# Altium footprint library Triode^MOS^Transistor.PcbLib: 7 footprints
Each footprint in its own frame and in the unit in brackets; x right, y up, seen from the top. Pads: shape width x height; smd on the part's side, far side on the other; paste and mask are expansions set on the pad; w line width, h text height; cw(c..) or ccw(c..) is an arc to the next point about the centre after c.
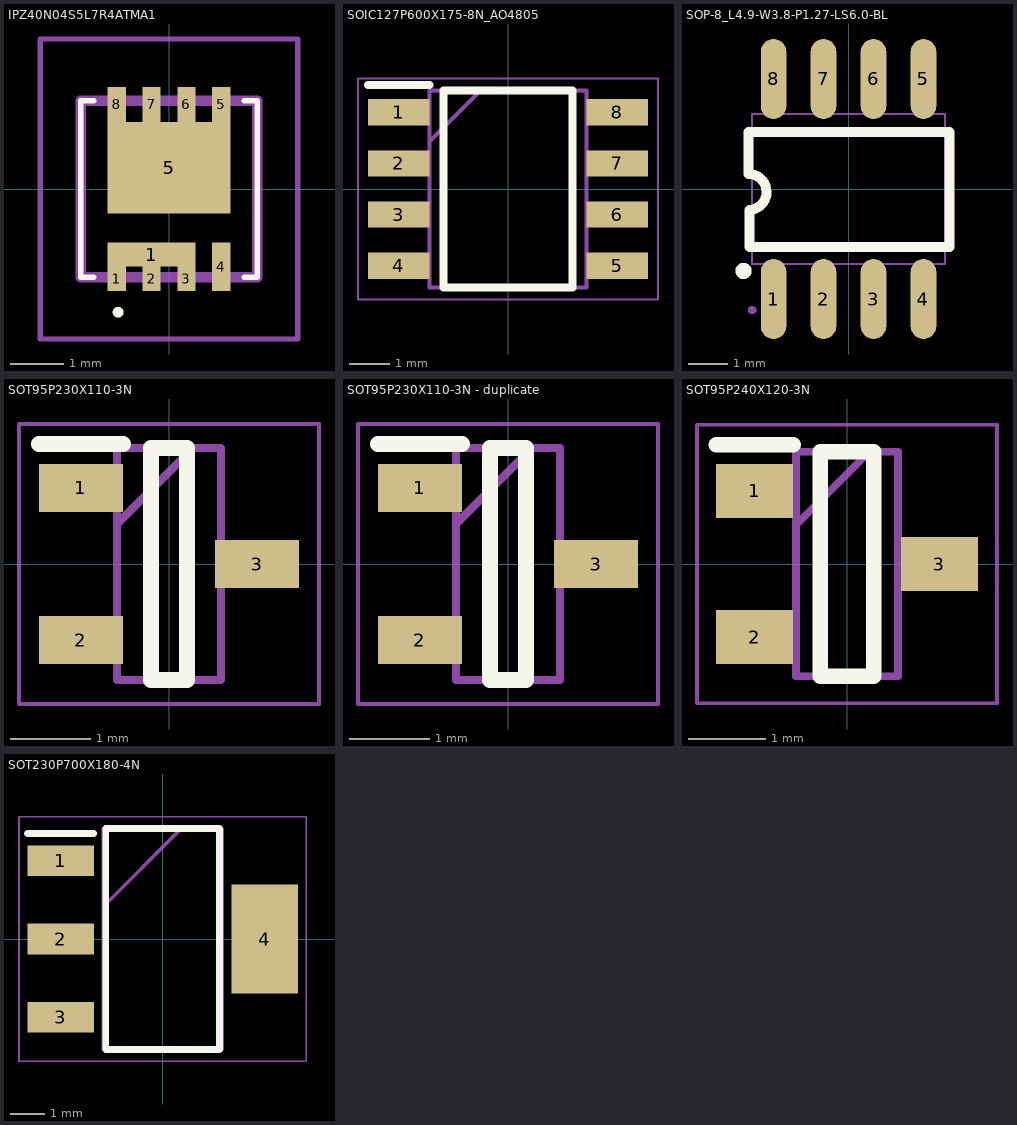
[diagram p0: the footprints below, top view; thin cyan lines are the x and y axes]

## IPZ40N04S5L7R4ATMA1 [mm]
pads (10):
  rect 0.34x0.45 smd: 1(-0.975,-1.675) 2(-0.325,-1.675) 3(0.325,-1.675)
  rect 1.64x0.45 smd: 1(-0.325,-1.225)
  rect 0.34x0.9 smd: 4(0.975,-1.45)
  rect 2.29x1.71 smd: 5(0,0.4)
  rect 0.34x0.65 smd: 5(0.975,1.58) 6(0.325,1.58) 7(-0.325,1.58) 8(-0.975,1.58)
Top Overlay:
  lines w0.1: -1.4,-1.65 -1.65,-1.65 -1.65,1.65 -1.4,1.65 ; 1.4,-1.65 1.65,-1.65 1.65,1.65 1.4,1.65 ; -1,-2.3 cw(c-0.95,-2.3) -0.9,-2.3 cw(c-0.95,-2.3) -1,-2.3
Mechanical 13:
  lines w0.2: -1.65,-1.65 -1.65,1.65 1.65,1.65 1.65,-1.65 -1.65,-1.65
Mechanical 15:
  lines w0.1: -2.4,-2.8 -2.4,2.8 2.4,2.8 2.4,-2.8 -2.4,-2.8

## SOIC127P600X175-8N_AO4805 [mm]
pads (8):
  rect 1.525x0.65 smd: 1(-2.712,1.905) 2(-2.712,0.635) 3(-2.712,-0.635) 4(-2.712,-1.905) 5(2.712,-1.905) 6(2.712,-0.635) 7(2.712,0.635) 8(2.712,1.905)
Top Overlay:
  lines w0.2: -3.475,2.58 -1.95,2.58 ; -1.6,-2.45 1.6,-2.45 1.6,2.45 -1.6,2.45 -1.6,-2.45
Mechanical 13:
  lines w0.1: -1.95,1.18 -0.68,2.45 ; -1.95,-2.45 1.95,-2.45 1.95,2.45 -1.95,2.45 -1.95,-2.45
Mechanical 15:
  lines w0.05: -3.725,-2.75 3.725,-2.75 3.725,2.75 -3.725,2.75 -3.725,-2.75
3D body "AO4805.stp": height 1.75, standoff 0, extent -3,-2.45 3,2.45

## SOP-8_L4.9-W3.8-P1.27-LS6.0-BL [mm]
pads (8):
  oval 0.65x2.032 smd: 1(-1.905,-2.796) 2(-0.635,-2.796) 3(0.635,-2.796) 4(1.905,-2.796) 5(1.905,2.796) 6(0.635,2.796) 7(-0.635,2.796) 8(-1.905,2.796)
Top Overlay:
  circle w0.254: c-2.667,-2.083 r0.08
  lines w0.254: -2.54,0.382 cw(c-2.54,-0.076) -2.515,-0.533 -2.515,-1.473 -2.489,-1.473 2.565,-1.473 2.565,1.448 -2.54,1.448 -2.54,0.382
Mechanical 6:
  circle w0.254: c-1.905,-3.353 r0.127
Mechanical 15:
  region: -2.35,-3.076 -2.35,-3.034 -2.409,-2.976 -2.492,-2.976 -2.55,-3.034 -2.55,-3.076 -2.55,-3.117 -2.492,-3.176 -2.409,-3.176 -2.35,-3.117 -2.35,-3.076
  region: -2.095,1.89 -2.095,2.375 -1.715,2.375 -1.715,1.89
  region: -2.095,2.365 -2.095,3 -1.715,3 -1.715,2.365
  region: -0.825,1.89 -0.825,2.375 -0.445,2.375 -0.445,1.89
  region: -0.825,2.365 -0.825,3 -0.445,3 -0.445,2.365
  region: 0.445,1.89 0.445,2.375 0.825,2.375 0.825,1.89
  region: 0.445,2.365 0.445,3 0.825,3 0.825,2.365
  region: 1.715,1.89 1.715,2.375 2.095,2.375 2.095,1.89
  region: 1.715,2.365 1.715,3 2.095,3 2.095,2.365
  region: 1.715,-2.375 1.715,-1.89 2.095,-1.89 2.095,-2.375
  region: 1.715,-3 1.715,-2.365 2.095,-2.365 2.095,-3
  region: 0.445,-2.375 0.445,-1.89 0.825,-1.89 0.825,-2.375
  region: 0.445,-3 0.445,-2.365 0.825,-2.365 0.825,-3
  region: -0.825,-2.375 -0.825,-1.89 -0.445,-1.89 -0.445,-2.375
  region: -0.825,-3 -0.825,-2.365 -0.445,-2.365 -0.445,-3
  region: -2.095,-2.375 -2.095,-1.89 -1.715,-1.89 -1.715,-2.375
  region: -2.095,-3 -2.095,-2.365 -1.715,-2.365 -1.715,-3
  lines w0.051: -2.45,-1.9 -2.45,1.9 2.45,1.9 2.45,-1.9 -2.45,-1.9

## SOT95P230X110-3N [mm]
pads (3):
  rect 1.05x0.6 smd: 1(-1.1,0.95) 2(-1.1,-0.95) 3(1.1,0)
Top Overlay:
  lines w0.2: -1.625,1.5 -0.575,1.5 ; -0.225,-1.45 0.225,-1.45 0.225,1.45 -0.225,1.45 -0.225,-1.45
Mechanical 13:
  lines w0.1: -0.65,0.5 0.3,1.45 ; -0.65,-1.45 0.65,-1.45 0.65,1.45 -0.65,1.45 -0.65,-1.45
Mechanical 15:
  lines w0.05: -1.875,-1.75 1.875,-1.75 1.875,1.75 -1.875,1.75 -1.875,-1.75
3D body "2N7002P,235.stp": height 1.1, standoff 0, extent -1.15,-1.45 1.15,1.45

## SOT95P230X110-3N - duplicate [mm]
pads (3):
  rect 1.05x0.6 smd: 1(-1.1,0.95) 2(-1.1,-0.95) 3(1.1,0)
Top Overlay:
  lines w0.2: -1.625,1.5 -0.575,1.5 ; -0.225,-1.45 0.225,-1.45 0.225,1.45 -0.225,1.45 -0.225,-1.45
Mechanical 13:
  lines w0.1: -0.65,0.5 0.3,1.45 ; -0.65,-1.45 0.65,-1.45 0.65,1.45 -0.65,1.45 -0.65,-1.45
Mechanical 15:
  lines w0.05: -1.875,-1.75 1.875,-1.75 1.875,1.75 -1.875,1.75 -1.875,-1.75
3D body "BSS138P,215.stp": height 0.95, standoff 0, extent -1.201,-1.448 1.199,1.452

## SOT95P240X120-3N [mm]
pads (3):
  rect 1x0.7 smd: 1(-1.2,0.95) 2(-1.2,-0.95) 3(1.2,0)
Top Overlay:
  lines w0.2: -1.7,1.55 -0.7,1.55 ; -0.35,-1.46 0.35,-1.46 0.35,1.46 -0.35,1.46 -0.35,-1.46
Mechanical 13:
  lines w0.1: -0.662,0.51 0.288,1.46 ; -0.662,-1.46 0.662,-1.46 0.662,1.46 -0.662,1.46 -0.662,-1.46
Mechanical 15:
  lines w0.05: -1.95,-1.81 1.95,-1.81 1.95,1.81 -1.95,1.81 -1.95,-1.81
3D body "MMBT5551.stp": height 1.2, standoff 0, extent -1.2,-1.46 1.2,1.46

## SOT230P700X180-4N [mm]
pads (4):
  rect 1.95x0.9 smd: 1(-3,2.3) 2(-3,0) 3(-3,-2.3)
  rect 1.95x3.2 smd: 4(3,0)
Top Overlay:
  lines w0.2: -3.975,3.1 -2.025,3.1 ; -1.675,-3.25 1.675,-3.25 1.675,3.25 -1.675,3.25 -1.675,-3.25
Mechanical 13:
  lines w0.1: -1.75,0.95 0.55,3.25 ; -1.75,-3.25 1.75,-3.25 1.75,3.25 -1.75,3.25 -1.75,-3.25
Mechanical 15:
  lines w0.05: -4.225,-3.6 4.225,-3.6 4.225,3.6 -4.225,3.6 -4.225,-3.6
3D body "BCP56-16,115.stp": height 1.65, standoff 0, extent -3.5,-3.333 3.5,3.327